# EAGLE library part HFCG-3000+ (library HFCG-3000+)
Signal Conditioning LTCC High Pass Filter, 3400 - 13000 MHz Source: Datasheet <https://www.minicircuits.com/WebStore/dashboardPdf?model=HFCG-3000+>
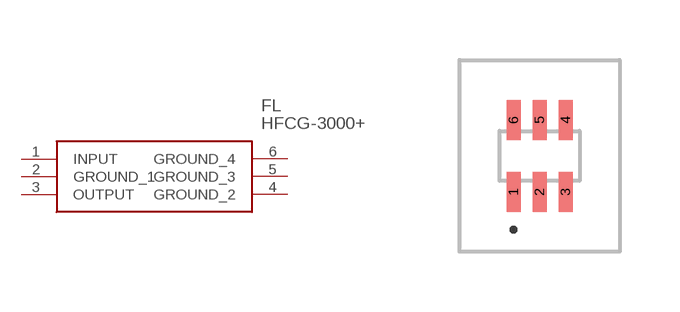
[diagram p0: symbol with the pads of HFCG3000; footprint HFCG3000]

Designator prefix FL

## HFCG-3000+ (Description: Signal Conditioning LTCC High Pass Filter, 3400 - 13000 MHz; Height: 1.1684mm; Manufacturer_Name: Mini-Circuits; Manufacturer_Part_Number: HFCG-3000+; Mouser_Part_Number: 139-HFCG-3000+; Mouser_Price-Stock: https://www.mouser.co.uk/ProductDetail/Mini-Circuits/HFCG-3000%2b?qs=Znm5pLBrcAK7iw0r11flSw%3D%3D)  [HFCG3000]
1  INPUT
2  GROUND_1
3  OUTPUT
4  GROUND_2
5  GROUND_3
6  GROUND_4

## Footprint HFCG3000 (pad centres in mm)
GE0805C-9_2025-2
smd 0.35 x 1: 1 -0.65,-0.9; 2 0,-0.9; 3 0.65,-0.9; 4 0.65,0.9; 5 0,0.9; 6 -0.65,0.9